# EAGLE library part LF412CDR (library custom_lib)
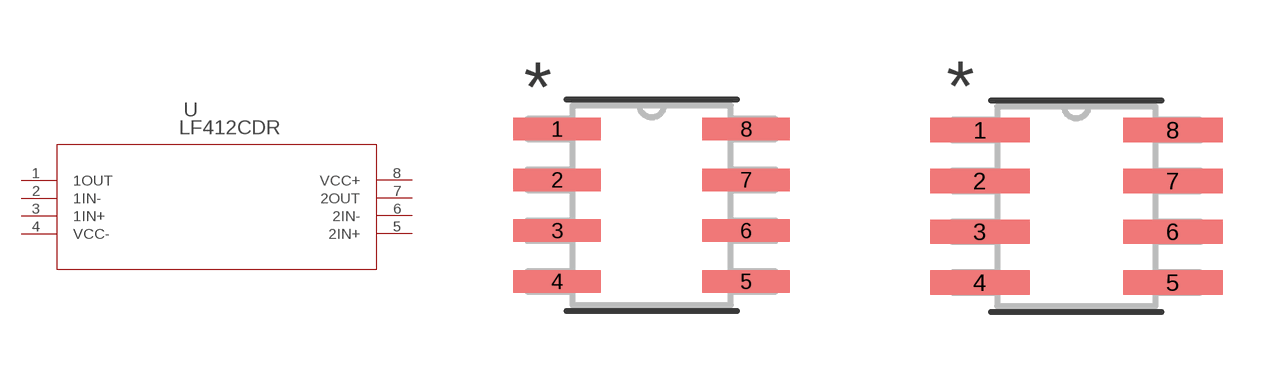
[diagram p4: symbol with the pads of D8; footprints D8, D8-M]

Designator prefix U

## LF412CDR (MANUFACTURER_PART_NUMBER: LF412CDR; VENDOR: Texas Instruments)  [D8]
1  1OUT  out
2  1IN-  in
3  1IN+  in
4  VCC-  pwr
5  2IN+  in
6  2IN-  in
7  2OUT  out
8  VCC+  pwr

## LF412CDRD8-M (MANUFACTURER_PART_NUMBER: LF412CDR; VENDOR: Texas Instruments)  [D8-M]
Pads as for D8

## LF412CDRD8-L (MANUFACTURER_PART_NUMBER: LF412CDR; VENDOR: Texas Instruments)  [D8-L]
Pads as for D8

## Footprint D8 (pad centres in mm)
smd 2.184 x 0.559: 1 -2.362,1.905; 2 -2.362,0.635; 3 -2.362,-0.635; 4 -2.362,-1.905; 5 2.362,-1.905; 6 2.362,-0.635; 7 2.362,0.635; 8 2.362,1.905

## Footprint D8-M (pad centres in mm)
smd 2.489 x 0.61: 1 -2.413,1.905; 2 -2.413,0.635; 3 -2.413,-0.635; 4 -2.413,-1.905; 5 2.413,-1.905; 6 2.413,-0.635; 7 2.413,0.635; 8 2.413,1.905

## Footprint D8-L (pad centres in mm)
smd 1.88 x 0.508: 1 -2.311,1.905; 2 -2.311,0.635; 3 -2.311,-0.635; 4 -2.311,-1.905; 5 2.311,-1.905; 6 2.311,-0.635; 7 2.311,0.635; 8 2.311,1.905